# Altium footprint library Vertical, Dual-Row, Flange Mount with Tab.PcbLib: 18 footprints (part 2 of 2)
Each footprint in its own frame and in the unit in brackets; x right, y up, seen from the top. Pads: shape width x height; smd on the part's side, far side on the other; paste and mask are expansions set on the pad; w line width, h text height; cw(c..) or ccw(c..) is an arc to the next point about the centre after c.
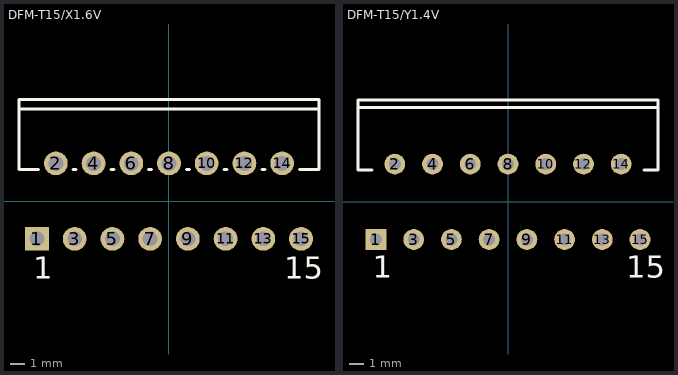
[diagram p1: the footprints below, top view; thin cyan lines are the x and y axes]

## DFM-T15/X1.6V [mm] "TO, Thru-Hole, Vertical, Heatsink Mounted; 15 Bent Staggered Leads; Pitch 1.27 mm"
height 21
pads (15):
  rect 1.6x1.6 hole 1: 1(-8.89,-2.54)
  round 1.6 hole 1: 2(-7.62,2.54) 3(-6.35,-2.54) 4(-5.08,2.54) 5(-3.81,-2.54) 6(-2.54,2.54) 7(-1.27,-2.54) 8(0,2.54) 9(1.27,-2.54) 10(2.54,2.54) 11(3.81,-2.54) 12(5.08,2.54) 13(6.35,-2.54) 14(7.62,2.54) 15(8.89,-2.54)
Top Overlay:
  lines w0.2: -10.1,6.19 10.1,6.19 ; -8.8,2.14 -10.1,2.14 -10.1,6.84 10.1,6.84 10.1,2.14 8.8,2.14 ; -6.45,2.14 -6.25,2.14 ; -3.91,2.14 -3.71,2.14 ; -1.37,2.14 -1.17,2.14 ; 1.17,2.14 1.37,2.14 ; 3.71,2.14 3.91,2.14 ; 6.25,2.14 6.45,2.14
  text "1" at -9.14,-5.215 h1.5
  text "15" at 7.765,-5.215 h1.5

## DFM-T15/Y1.4V [mm] "TO, Thru-Hole, Vertical, Heatsink Mounted; 15 Bent Staggered Leads; Pitch 1.27 mm"
height 23
pads (15):
  rect 1.4x1.4 hole 0.8: 1(-8.89,-2.54)
  round 1.4 hole 0.8: 2(-7.62,2.54) 3(-6.35,-2.54) 4(-5.08,2.54) 5(-3.81,-2.54) 6(-2.54,2.54) 7(-1.27,-2.54) 8(0,2.54) 9(1.27,-2.54) 10(2.54,2.54) 11(3.81,-2.54) 12(5.08,2.54) 13(6.35,-2.54) 14(7.62,2.54) 15(8.89,-2.54)
Top Overlay:
  lines w0.2: -10.1,6.34 10.1,6.34 ; -9.144,2.14 -10.1,2.14 -10.1,6.84 10.1,6.84 10.1,2.14 9.144,2.14
  text "1" at -9.12,-5.115 h1.5
  text "15" at 7.95,-5.115 h1.5